# Altium footprint library Capacitor_THT.PcbLib: 378 footprints (part 19 of 24)
Each footprint in its own frame and in the unit in brackets; x right, y up, seen from the top. Pads: shape width x height; smd on the part's side, far side on the other; paste and mask are expansions set on the pad; w line width, h text height; cw(c..) or ccw(c..) is an arc to the next point about the centre after c.
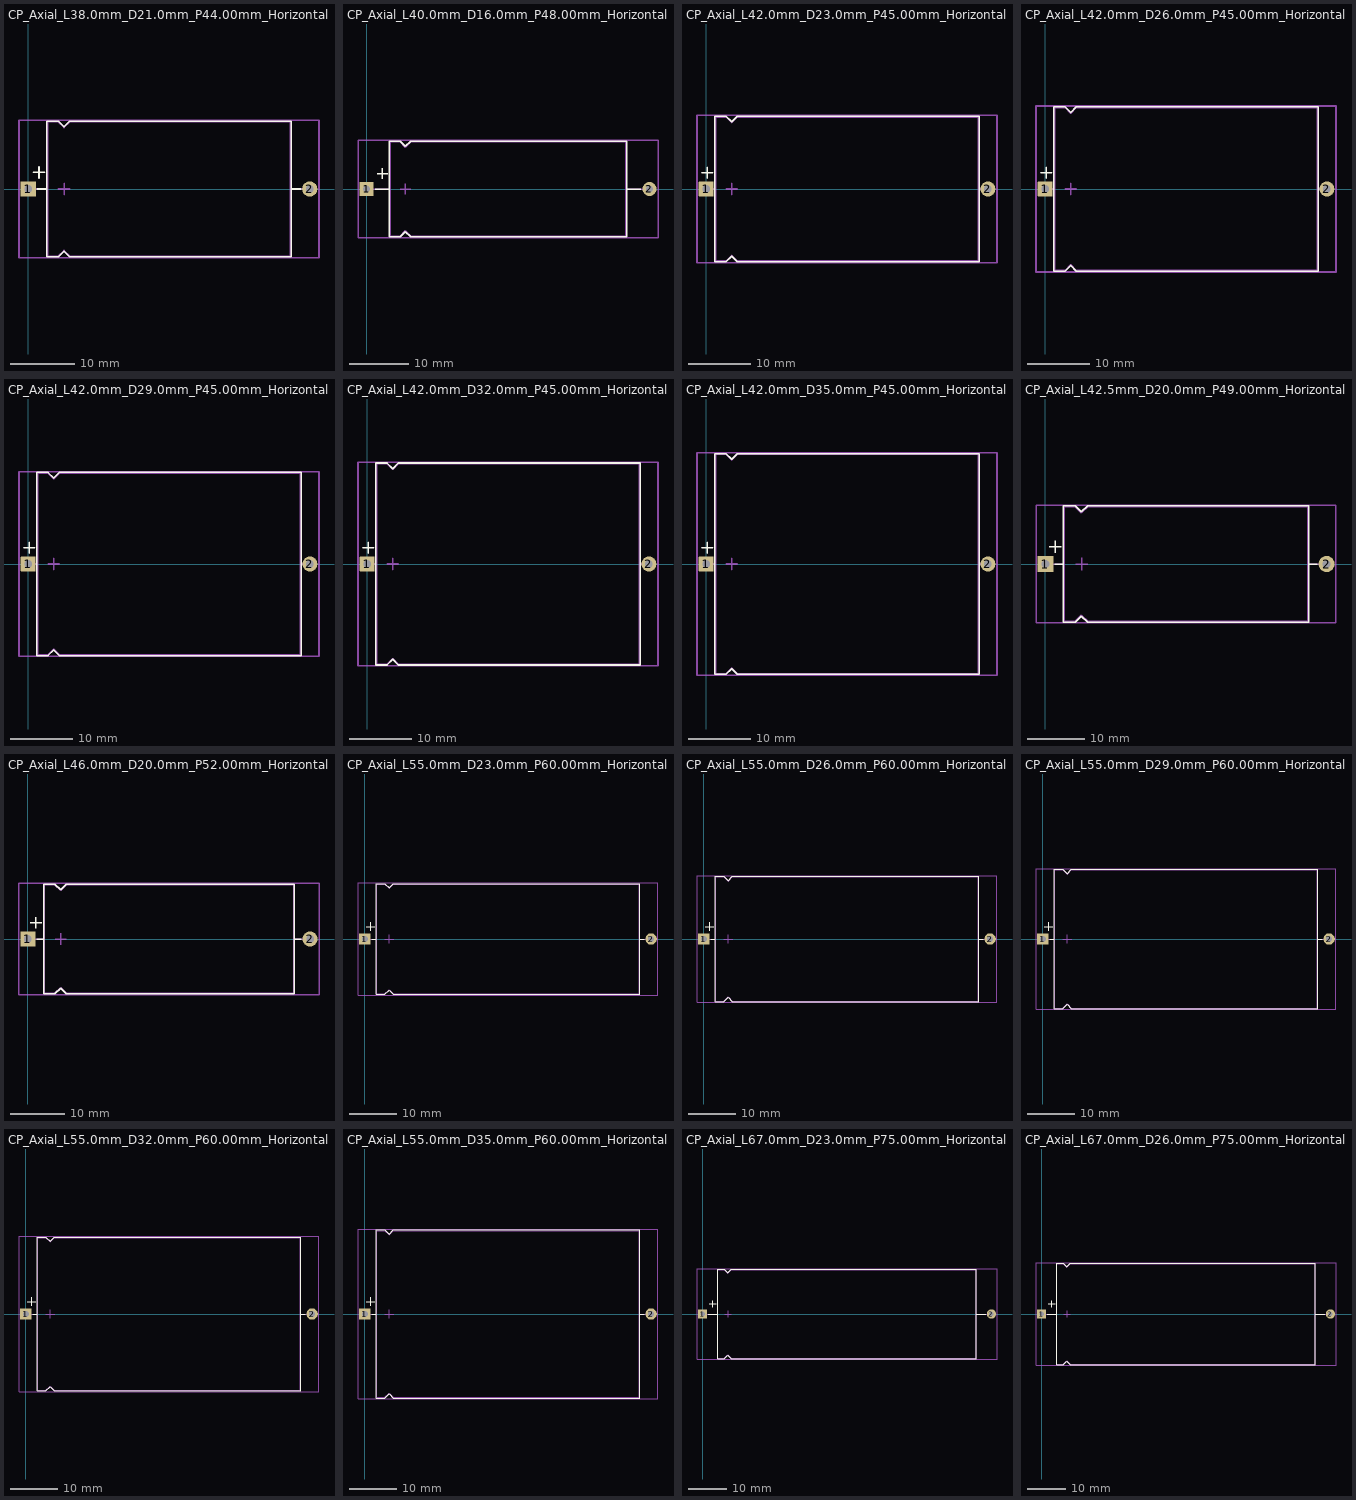
[diagram p18: the footprints below, top view; thin cyan lines are the x and y axes]

## CP_Axial_L38.0mm_D21.0mm_P44.00mm_Horizontal [mm] "CP_Axial_L38.0mm_D21.0mm_P44.00mm_Horizontal"
pads (2):
  rrect10% 2.4x2.4 hole 1.2: 1(0,0)
  round 2.4 hole 1.2: 2(44,0)
F.SilkS:
  lines w0.254: 0.78,2.6 2.58,2.6 ; 1.44,0 2.88,0 ; 1.68,1.7 1.68,3.5 ; 41.12,0 42.56,0 ; 2.88,-10.62 2.88,10.62 4.68,10.62 5.58,9.72 6.48,10.62 41.12,10.62 41.12,-10.62 6.48,-10.62 5.58,-9.72 4.68,-10.62 2.88,-10.62
Top Component Center:
  lines w0.127: -0.127,0 0.127,0 ; 0,-0.127 0,0.127
Top Assembly:
  lines w0.254: 0,0 3,0 ; 4.7,0 6.5,0 ; 5.6,-0.9 5.6,0.9 ; 41,0 44,0 ; 3,-10.5 3,10.5 4.68,10.5 5.58,9.6 6.48,10.5 41,10.5 41,-10.5 6.48,-10.5 5.58,-9.6 4.68,-10.5 3,-10.5
Top Courtyard:
  lines w0.254: -1.45,-10.75 -1.45,10.75 45.45,10.75 45.45,-10.75 -1.45,-10.75
Top Designator:
  text ".Designator" at 16.378,-0.345 h1.52
3D body "CP_Axial_L38.0mm_D21.0mm_P44.00mm_Horizontal.step": height 21.01, standoff -2, extent -0.447,-10.5 44.447,10.496

## CP_Axial_L40.0mm_D16.0mm_P48.00mm_Horizontal [mm] "CP_Axial_L40.0mm_D16.0mm_P48.00mm_Horizontal"
pads (2):
  rrect10% 2.4x2.4 hole 1.2: 1(0,0)
  round 2.4 hole 1.2: 2(48,0)
F.SilkS:
  lines w0.254: 1.44,0 3.88,0 ; 1.78,2.6 3.58,2.6 ; 2.68,1.7 2.68,3.5 ; 44.12,0 46.56,0 ; 3.88,-8.12 5.68,-8.12 6.58,-7.22 7.48,-8.12 44.12,-8.12 44.12,8.12 7.48,8.12 6.58,7.22 5.68,8.12 3.88,8.12 3.88,-8.12
Top Component Center:
  lines w0.127: -0.127,0 0.127,0 ; 0,-0.127 0,0.127
Top Assembly:
  lines w0.254: 0,0 4,0 ; 5.7,0 7.5,0 ; 6.6,-0.9 6.6,0.9 ; 44,0 48,0 ; 4,-8 5.68,-8 6.58,-7.1 7.48,-8 44,-8 44,8 7.48,8 6.58,7.1 5.68,8 4,8 4,-8
Top Courtyard:
  lines w0.254: -1.45,-8.25 49.45,-8.25 49.45,8.25 -1.45,8.25 -1.45,-8.25
Top Designator:
  text ".Designator" at 19.299,-0.472 h1.52
3D body "CP_Axial_L40.0mm_D16.0mm_P48.00mm_Horizontal.step": height 16.01, standoff -2, extent -0.447,-8 48.447,7.999

## CP_Axial_L42.0mm_D23.0mm_P45.00mm_Horizontal [mm] "CP_Axial_L42.0mm_D23.0mm_P45.00mm_Horizontal"
pads (2):
  rrect10% 2.4x2.4 hole 1.2: 1(0,0)
  round 2.4 hole 1.2: 2(45,0)
F.SilkS:
  lines w0.254: -0.72,2.6 1.08,2.6 ; 0.18,1.7 0.18,3.5 ; 1.38,-11.62 3.18,-11.62 4.08,-10.72 4.98,-11.62 43.62,-11.62 43.62,11.62 4.98,11.62 4.08,10.72 3.18,11.62 1.38,11.62 1.38,-11.62
Top Component Center:
  lines w0.127: -0.127,0 0.127,0 ; 0,-0.127 0,0.127
Top Assembly:
  lines w0.254: 0,0 1.5,0 ; 3.2,0 5,0 ; 4.1,-0.9 4.1,0.9 ; 43.5,0 45,0 ; 1.5,-11.5 3.18,-11.5 4.08,-10.6 4.98,-11.5 43.5,-11.5 43.5,11.5 4.98,11.5 4.08,10.6 3.18,11.5 1.5,11.5 1.5,-11.5
Top Courtyard:
  lines w0.254: -1.45,-11.75 46.45,-11.75 46.45,11.75 -1.45,11.75 -1.45,-11.75
Top Designator:
  text ".Designator" at 18.029,-0.345 h1.52
3D body "CP_Axial_L42.0mm_D23.0mm_P45.00mm_Horizontal.step": height 23.01, standoff -2, extent -0.447,-11.497 45.447,11.497

## CP_Axial_L42.0mm_D26.0mm_P45.00mm_Horizontal [mm] "CP_Axial_L42.0mm_D26.0mm_P45.00mm_Horizontal"
pads (2):
  rrect10% 2.4x2.4 hole 1.2: 1(0,0)
  round 2.4 hole 1.2: 2(45,0)
F.SilkS:
  lines w0.254: -0.72,2.6 1.08,2.6 ; 0.18,1.7 0.18,3.5 ; 1.38,-13.12 3.18,-13.12 4.08,-12.22 4.98,-13.12 43.62,-13.12 43.62,13.12 4.98,13.12 4.08,12.22 3.18,13.12 1.38,13.12 1.38,-13.12
Top Component Center:
  lines w0.127: -0.127,0 0.127,0 ; 0,-0.127 0,0.127
Top Assembly:
  lines w0.254: 0,0 1.5,0 ; 3.2,0 5,0 ; 4.1,-0.9 4.1,0.9 ; 43.5,0 45,0 ; 1.5,-13 3.18,-13 4.08,-12.1 4.98,-13 43.5,-13 43.5,13 4.98,13 4.08,12.1 3.18,13 1.5,13 1.5,-13
Top Courtyard:
  lines w0.254: -1.45,-13.25 46.45,-13.25 46.45,13.25 -1.45,13.25 -1.45,-13.25
Top Designator:
  text ".Designator" at 19.299,-0.472 h1.52
3D body "CP_Axial_L42.0mm_D26.0mm_P45.00mm_Horizontal.step": height 26.01, standoff -2, extent -0.447,-13 45.447,13

## CP_Axial_L42.0mm_D29.0mm_P45.00mm_Horizontal [mm] "CP_Axial_L42.0mm_D29.0mm_P45.00mm_Horizontal"
pads (2):
  rrect10% 2.4x2.4 hole 1.2: 1(0,0)
  round 2.4 hole 1.2: 2(45,0)
F.SilkS:
  lines w0.254: -0.72,2.6 1.08,2.6 ; 0.18,1.7 0.18,3.5 ; 1.38,-14.62 1.38,14.62 3.18,14.62 4.08,13.72 4.98,14.62 43.62,14.62 43.62,-14.62 4.98,-14.62 4.08,-13.72 3.18,-14.62 1.38,-14.62
Top Component Center:
  lines w0.127: -0.127,0 0.127,0 ; 0,-0.127 0,0.127
Top Assembly:
  lines w0.254: 0,0 1.5,0 ; 3.2,0 5,0 ; 4.1,-0.9 4.1,0.9 ; 43.5,0 45,0 ; 1.5,-14.5 1.5,14.5 3.18,14.5 4.08,13.6 4.98,14.5 43.5,14.5 43.5,-14.5 4.98,-14.5 4.08,-13.6 3.18,-14.5 1.5,-14.5
Top Courtyard:
  lines w0.254: -1.45,-14.75 -1.45,14.75 46.45,14.75 46.45,-14.75 -1.45,-14.75
Top Designator:
  text ".Designator" at 18.664,-0.472 h1.52
3D body "CP_Axial_L42.0mm_D29.0mm_P45.00mm_Horizontal.step": height 29.01, standoff -2, extent -0.447,-14.499 45.447,14.5

## CP_Axial_L42.0mm_D32.0mm_P45.00mm_Horizontal [mm] "CP_Axial_L42.0mm_D32.0mm_P45.00mm_Horizontal"
pads (2):
  rrect10% 2.4x2.4 hole 1.2: 1(0,0)
  round 2.4 hole 1.2: 2(45,0)
F.SilkS:
  lines w0.254: -0.72,2.6 1.08,2.6 ; 0.18,1.7 0.18,3.5 ; 1.38,-16.12 3.18,-16.12 4.08,-15.22 4.98,-16.12 43.62,-16.12 43.62,16.12 4.98,16.12 4.08,15.22 3.18,16.12 1.38,16.12 1.38,-16.12
Top Component Center:
  lines w0.127: -0.127,0 0.127,0 ; 0,-0.127 0,0.127
Top Assembly:
  lines w0.254: 0,0 1.5,0 ; 3.2,0 5,0 ; 4.1,-0.9 4.1,0.9 ; 43.5,0 45,0 ; 1.5,-16 3.18,-16 4.08,-15.1 4.98,-16 43.5,-16 43.5,16 4.98,16 4.08,15.1 3.18,16 1.5,16 1.5,-16
Top Courtyard:
  lines w0.254: -1.45,-16.25 46.45,-16.25 46.45,16.25 -1.45,16.25 -1.45,-16.25
Top Designator:
  text ".Designator" at 18.283,-0.472 h1.52
3D body "CP_Axial_L42.0mm_D32.0mm_P45.00mm_Horizontal.step": height 32.01, standoff -2, extent -0.447,-16 45.447,15.998

## CP_Axial_L42.0mm_D35.0mm_P45.00mm_Horizontal [mm] "CP_Axial_L42.0mm_D35.0mm_P45.00mm_Horizontal"
pads (2):
  rrect10% 2.4x2.4 hole 1.2: 1(0,0)
  round 2.4 hole 1.2: 2(45,0)
F.SilkS:
  lines w0.254: -0.72,2.6 1.08,2.6 ; 0.18,1.7 0.18,3.5 ; 1.38,-17.62 3.18,-17.62 4.08,-16.72 4.98,-17.62 43.62,-17.62 43.62,17.62 4.98,17.62 4.08,16.72 3.18,17.62 1.38,17.62 1.38,-17.62
Top Component Center:
  lines w0.127: -0.127,0 0.127,0 ; 0,-0.127 0,0.127
Top Assembly:
  lines w0.254: 0,0 1.5,0 ; 3.2,0 5,0 ; 4.1,-0.9 4.1,0.9 ; 43.5,0 45,0 ; 1.5,-17.5 3.18,-17.5 4.08,-16.6 4.98,-17.5 43.5,-17.5 43.5,17.5 4.98,17.5 4.08,16.6 3.18,17.5 1.5,17.5 1.5,-17.5
Top Courtyard:
  lines w0.254: -1.45,-17.75 46.45,-17.75 46.45,17.75 -1.45,17.75 -1.45,-17.75
Top Designator:
  text ".Designator" at 18.029,-0.472 h1.52
3D body "CP_Axial_L42.0mm_D35.0mm_P45.00mm_Horizontal.step": height 35.01, standoff -2, extent -0.447,-17.5 45.448,17.496

## CP_Axial_L42.5mm_D20.0mm_P49.00mm_Horizontal [mm] "CP_Axial_L42.5mm_D20.0mm_P49.00mm_Horizontal"
pads (2):
  rrect9% 2.8x2.8 hole 1.4: 1(0,0)
  round 2.8 hole 1.4: 2(49,0)
F.SilkS:
  lines w0.254: 0.68,3 2.78,3 ; 1.64,0 3.13,0 ; 1.73,1.95 1.73,4.05 ; 45.87,0 47.36,0 ; 3.13,-10.12 3.13,10.12 5.23,10.12 6.28,9.07 7.33,10.12 45.87,10.12 45.87,-10.12 7.33,-10.12 6.28,-9.07 5.23,-10.12 3.13,-10.12
Top Component Center:
  lines w0.127: -0.127,0 0.127,0 ; 0,-0.127 0,0.127
Top Assembly:
  lines w0.254: 0,0 3.25,0 ; 5.25,0 7.35,0 ; 6.3,-1.05 6.3,1.05 ; 45.75,0 49,0 ; 3.25,-10 3.25,10 5.23,10 6.28,8.95 7.33,10 45.75,10 45.75,-10 7.33,-10 6.28,-8.95 5.23,-10 3.25,-10
Top Courtyard:
  lines w0.254: -1.65,-10.25 -1.65,10.25 50.65,10.25 50.65,-10.25 -1.65,-10.25
Top Designator:
  text ".Designator" at 21.331,-0.472 h1.52
3D body "CP_Axial_L42.5mm_D20.0mm_P49.00mm_Horizontal.step": height 20.01, standoff -2, extent -0.546,-10 49.546,9.997

## CP_Axial_L46.0mm_D20.0mm_P52.00mm_Horizontal [mm] "CP_Axial_L46.0mm_D20.0mm_P52.00mm_Horizontal"
pads (2):
  rrect9% 2.8x2.8 hole 1.4: 1(0,0)
  round 2.8 hole 1.4: 2(52,0)
F.SilkS:
  lines w0.254: 0.43,3 2.53,3 ; 1.48,1.95 1.48,4.05 ; 1.64,0 2.88,0 ; 49.12,0 50.36,0 ; 2.88,-10.12 2.88,10.12 4.98,10.12 6.03,9.07 7.08,10.12 49.12,10.12 49.12,-10.12 7.08,-10.12 6.03,-9.07 4.98,-10.12 2.88,-10.12
Top Component Center:
  lines w0.127: -0.127,0 0.127,0 ; 0,-0.127 0,0.127
Top Assembly:
  lines w0.254: 0,0 3,0 ; 5,0 7.1,0 ; 6.05,-1.05 6.05,1.05 ; 49,0 52,0 ; 3,-10 3,10 4.98,10 6.03,8.95 7.08,10 49,10 49,-10 7.08,-10 6.03,-8.95 4.98,-10 3,-10
Top Courtyard:
  lines w0.254: -1.65,-10.25 -1.65,10.25 53.65,10.25 53.65,-10.25 -1.65,-10.25
Top Designator:
  text ".Designator" at 23.236,-0.472 h1.52
3D body "CP_Axial_L46.0mm_D20.0mm_P52.00mm_Horizontal.step": height 20.01, standoff -2, extent -0.546,-9.998 52.546,9.998

## CP_Axial_L55.0mm_D23.0mm_P60.00mm_Horizontal [mm] "CP_Axial_L55.0mm_D23.0mm_P60.00mm_Horizontal"
pads (2):
  rrect10% 2.4x2.4 hole 1.2: 1(0,0)
  round 2.4 hole 1.2: 2(60,0)
F.SilkS:
  lines w0.254: 0.28,2.6 2.08,2.6 ; 1.18,1.7 1.18,3.5 ; 1.44,0 2.38,0 ; 57.62,0 58.56,0 ; 2.38,-11.62 4.18,-11.62 5.08,-10.72 5.98,-11.62 57.62,-11.62 57.62,11.62 5.98,11.62 5.08,10.72 4.18,11.62 2.38,11.62 2.38,-11.62
Top Component Center:
  lines w0.127: -0.127,0 0.127,0 ; 0,-0.127 0,0.127
Top Assembly:
  lines w0.254: 0,0 2.5,0 ; 4.2,0 6,0 ; 5.1,-0.9 5.1,0.9 ; 57.5,0 60,0 ; 2.5,-11.5 4.18,-11.5 5.08,-10.6 5.98,-11.5 57.5,-11.5 57.5,11.5 5.98,11.5 5.08,10.6 4.18,11.5 2.5,11.5 2.5,-11.5
Top Courtyard:
  lines w0.254: -1.45,-11.75 61.45,-11.75 61.45,11.75 -1.45,11.75 -1.45,-11.75
Top Designator:
  text ".Designator" at 27.173,-0.472 h1.52
3D body "CP_Axial_L55.0mm_D23.0mm_P60.00mm_Horizontal.step": height 23.01, standoff -2, extent -0.447,-11.498 60.447,11.498

## CP_Axial_L55.0mm_D26.0mm_P60.00mm_Horizontal [mm] "CP_Axial_L55.0mm_D26.0mm_P60.00mm_Horizontal"
pads (2):
  rrect10% 2.4x2.4 hole 1.2: 1(0,0)
  round 2.4 hole 1.2: 2(60,0)
F.SilkS:
  lines w0.254: 0.28,2.6 2.08,2.6 ; 1.18,1.7 1.18,3.5 ; 1.44,0 2.38,0 ; 57.62,0 58.56,0 ; 2.38,-13.12 4.18,-13.12 5.08,-12.22 5.98,-13.12 57.62,-13.12 57.62,13.12 5.98,13.12 5.08,12.22 4.18,13.12 2.38,13.12 2.38,-13.12
Top Component Center:
  lines w0.127: -0.127,0 0.127,0 ; 0,-0.127 0,0.127
Top Assembly:
  lines w0.254: 0,0 2.5,0 ; 4.2,0 6,0 ; 5.1,-0.9 5.1,0.9 ; 57.5,0 60,0 ; 2.5,-13 4.18,-13 5.08,-12.1 5.98,-13 57.5,-13 57.5,13 5.98,13 5.08,12.1 4.18,13 2.5,13 2.5,-13
Top Courtyard:
  lines w0.254: -1.45,-13.25 61.45,-13.25 61.45,13.25 -1.45,13.25 -1.45,-13.25
Top Designator:
  text ".Designator" at 26.792,-0.472 h1.52
3D body "CP_Axial_L55.0mm_D26.0mm_P60.00mm_Horizontal.step": height 26.01, standoff -2, extent -0.447,-13 60.447,12.999

## CP_Axial_L55.0mm_D29.0mm_P60.00mm_Horizontal [mm] "CP_Axial_L55.0mm_D29.0mm_P60.00mm_Horizontal"
pads (2):
  rrect10% 2.4x2.4 hole 1.2: 1(0,0)
  round 2.4 hole 1.2: 2(60,0)
F.SilkS:
  lines w0.254: 0.28,2.6 2.08,2.6 ; 1.18,1.7 1.18,3.5 ; 1.44,0 2.38,0 ; 57.62,0 58.56,0 ; 2.38,-14.62 4.18,-14.62 5.08,-13.72 5.98,-14.62 57.62,-14.62 57.62,14.62 5.98,14.62 5.08,13.72 4.18,14.62 2.38,14.62 2.38,-14.62
Top Component Center:
  lines w0.127: -0.127,0 0.127,0 ; 0,-0.127 0,0.127
Top Assembly:
  lines w0.254: 0,0 2.5,0 ; 4.2,0 6,0 ; 5.1,-0.9 5.1,0.9 ; 57.5,0 60,0 ; 2.5,-14.5 4.18,-14.5 5.08,-13.6 5.98,-14.5 57.5,-14.5 57.5,14.5 5.98,14.5 5.08,13.6 4.18,14.5 2.5,14.5 2.5,-14.5
Top Courtyard:
  lines w0.254: -1.45,-14.75 61.45,-14.75 61.45,14.75 -1.45,14.75 -1.45,-14.75
Top Designator:
  text ".Designator" at 26.919,-0.345 h1.52
3D body "CP_Axial_L55.0mm_D29.0mm_P60.00mm_Horizontal.step": height 29.01, standoff -2, extent -0.447,-14.496 60.447,14.495

## CP_Axial_L55.0mm_D32.0mm_P60.00mm_Horizontal [mm] "CP_Axial_L55.0mm_D32.0mm_P60.00mm_Horizontal"
pads (2):
  rrect10% 2.4x2.4 hole 1.2: 1(0,0)
  round 2.4 hole 1.2: 2(60,0)
F.SilkS:
  lines w0.254: 0.28,2.6 2.08,2.6 ; 1.18,1.7 1.18,3.5 ; 1.44,0 2.38,0 ; 57.62,0 58.56,0 ; 2.38,-16.12 2.38,16.12 4.18,16.12 5.08,15.22 5.98,16.12 57.62,16.12 57.62,-16.12 5.98,-16.12 5.08,-15.22 4.18,-16.12 2.38,-16.12
Top Component Center:
  lines w0.127: -0.127,0 0.127,0 ; 0,-0.127 0,0.127
Top Assembly:
  lines w0.254: 0,0 2.5,0 ; 4.2,0 6,0 ; 5.1,-0.9 5.1,0.9 ; 57.5,0 60,0 ; 2.5,-16 2.5,16 4.18,16 5.08,15.1 5.98,16 57.5,16 57.5,-16 5.98,-16 5.08,-15.1 4.18,-16 2.5,-16
Top Courtyard:
  lines w0.254: -1.45,-16.25 -1.45,16.25 61.45,16.25 61.45,-16.25 -1.45,-16.25
Top Designator:
  text ".Designator" at 26.792,-0.599 h1.52
3D body "CP_Axial_L55.0mm_D32.0mm_P60.00mm_Horizontal.step": height 32.01, standoff -2, extent -0.447,-15.985 60.447,16

## CP_Axial_L55.0mm_D35.0mm_P60.00mm_Horizontal [mm] "CP_Axial_L55.0mm_D35.0mm_P60.00mm_Horizontal"
pads (2):
  rrect10% 2.4x2.4 hole 1.2: 1(0,0)
  round 2.4 hole 1.2: 2(60,0)
F.SilkS:
  lines w0.254: 0.28,2.6 2.08,2.6 ; 1.18,1.7 1.18,3.5 ; 1.44,0 2.38,0 ; 57.62,0 58.56,0 ; 2.38,-17.62 2.38,17.62 4.18,17.62 5.08,16.72 5.98,17.62 57.62,17.62 57.62,-17.62 5.98,-17.62 5.08,-16.72 4.18,-17.62 2.38,-17.62
Top Component Center:
  lines w0.127: -0.127,0 0.127,0 ; 0,-0.127 0,0.127
Top Assembly:
  lines w0.254: 0,0 2.5,0 ; 4.2,0 6,0 ; 5.1,-0.9 5.1,0.9 ; 57.5,0 60,0 ; 2.5,-17.5 2.5,17.5 4.18,17.5 5.08,16.6 5.98,17.5 57.5,17.5 57.5,-17.5 5.98,-17.5 5.08,-16.6 4.18,-17.5 2.5,-17.5
Top Courtyard:
  lines w0.254: -1.45,-17.75 -1.45,17.75 61.45,17.75 61.45,-17.75 -1.45,-17.75
Top Designator:
  text ".Designator" at 25.776,-0.345 h1.52
3D body "CP_Axial_L55.0mm_D35.0mm_P60.00mm_Horizontal.step": height 35.01, standoff -2, extent -0.447,-17.499 60.447,17.499

## CP_Axial_L67.0mm_D23.0mm_P75.00mm_Horizontal [mm] "CP_Axial_L67.0mm_D23.0mm_P75.00mm_Horizontal"
pads (2):
  rrect10% 2.4x2.4 hole 1.2: 1(0,0)
  round 2.4 hole 1.2: 2(75,0)
F.SilkS:
  lines w0.254: 1.44,0 3.88,0 ; 1.78,2.6 3.58,2.6 ; 2.68,1.7 2.68,3.5 ; 71.12,0 73.56,0 ; 3.88,-11.62 3.88,11.62 5.68,11.62 6.58,10.72 7.48,11.62 71.12,11.62 71.12,-11.62 7.48,-11.62 6.58,-10.72 5.68,-11.62 3.88,-11.62
Top Component Center:
  lines w0.127: -0.127,0 0.127,0 ; 0,-0.127 0,0.127
Top Assembly:
  lines w0.254: 0,0 4,0 ; 5.7,0 7.5,0 ; 6.6,-0.9 6.6,0.9 ; 71,0 75,0 ; 4,-11.5 4,11.5 5.68,11.5 6.58,10.6 7.48,11.5 71,11.5 71,-11.5 7.48,-11.5 6.58,-10.6 5.68,-11.5 4,-11.5
Top Courtyard:
  lines w0.254: -1.45,-11.75 -1.45,11.75 76.45,11.75 76.45,-11.75 -1.45,-11.75
Top Designator:
  text ".Designator" at 35.428,-0.472 h1.52
3D body "CP_Axial_L67.0mm_D23.0mm_P75.00mm_Horizontal.step": height 23.01, standoff -2, extent -0.447,-11.5 75.447,11.488

## CP_Axial_L67.0mm_D26.0mm_P75.00mm_Horizontal [mm] "CP_Axial_L67.0mm_D26.0mm_P75.00mm_Horizontal"
pads (2):
  rrect10% 2.4x2.4 hole 1.2: 1(0,0)
  round 2.4 hole 1.2: 2(75,0)
F.SilkS:
  lines w0.254: 1.44,0 3.88,0 ; 1.78,2.6 3.58,2.6 ; 2.68,1.7 2.68,3.5 ; 71.12,0 73.56,0 ; 3.88,-13.12 3.88,13.12 5.68,13.12 6.58,12.22 7.48,13.12 71.12,13.12 71.12,-13.12 7.48,-13.12 6.58,-12.22 5.68,-13.12 3.88,-13.12
Top Component Center:
  lines w0.127: -0.127,0 0.127,0 ; 0,-0.127 0,0.127
Top Assembly:
  lines w0.254: 0,0 4,0 ; 5.7,0 7.5,0 ; 6.6,-0.9 6.6,0.9 ; 71,0 75,0 ; 4,-13 4,13 5.68,13 6.58,12.1 7.48,13 71,13 71,-13 7.48,-13 6.58,-12.1 5.68,-13 4,-13
Top Courtyard:
  lines w0.254: -1.45,-13.25 -1.45,13.25 76.45,13.25 76.45,-13.25 -1.45,-13.25
Top Designator:
  text ".Designator" at 36.825,-0.345 h1.52
3D body "CP_Axial_L67.0mm_D26.0mm_P75.00mm_Horizontal.step": height 26.01, standoff -2, extent -0.447,-12.988 75.447,12.998